# EAGLE library part BLUTOOTHBEE-MS (library template)
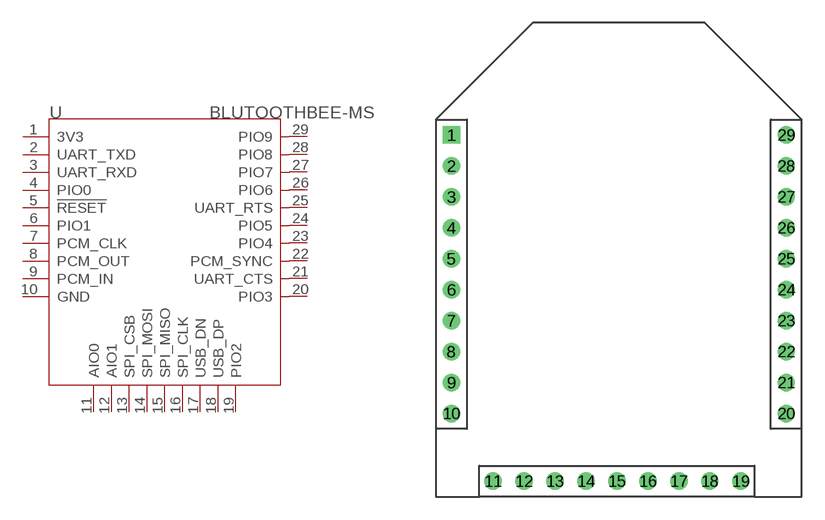
[diagram p3: symbol with the pads of 29P-DIP-2.0; footprint 29P-DIP-2.0]

Designator prefix U

## BLUTOOTHBEE-MS  [29P-DIP-2.0]
1  3V3
2  UART_TXD
3  UART_RXD
4  PIO0
5  !RESET
6  PIO1
7  PCM_CLK
8  PCM_OUT
9  PCM_IN
10  GND
11  AIO0
12  AIO1
13  SPI_CSB
14  SPI_MOSI
15  SPI_MISO
16  SPI_CLK
17  USB_DN
18  USB_DP
19  PIO2
20  PIO3
21  UART_CTS
22  PCM_SYNC
23  PIO4
24  PIO5
25  UART_RTS
26  PIO6
27  PIO7
28  PIO8
29  PIO9

## Footprint 29P-DIP-2.0 (pad centres in mm)
drill 0.635 pad 1.143 square: 1 -10.986,8.128
drill 0.635 pad 1.143: 2 -10.986,6.096; 3 -10.986,4.064; 4 -10.986,2.032; 5 -10.986,0; 6 -10.986,-2.032; 7 -10.986,-4.064; 8 -10.986,-6.096; 9 -10.986,-8.128; 10 -10.986,-10.16; 11 -8.255,-14.605; 12 -6.223,-14.605; 13 -4.191,-14.605; 14 -2.159,-14.605; 15 -0.127,-14.605; 16 1.905,-14.605; 17 3.937,-14.605; 18 5.969,-14.605; 19 8.001,-14.605; 20 10.986,-10.16; 21 10.986,-8.128; 22 10.986,-6.096; 23 10.986,-4.064; 24 10.986,-2.032; 25 10.986,0; 26 10.986,2.032; 27 10.986,4.064; 28 10.986,6.096; 29 10.986,8.128